# EAGLE library part 690357101472 (library Eagle_BOARD-TO-BOARD_CONNECTORS (rev18b))
WR-MM Male Connector with Polarization,14 Pins=>Code : Con_BTB_MM_Male_THT_690357101472 <http://katalog.we-online.de/media/thumbs2/eican/thb_Con_BTB_MM_Male_THT_69035710xx72_pf2.jpg> Details see: http://katalog.we-online.de/en/em/6903_5710_xx_72 Created 2014-06-04, Karrer Zheng 2014 (C) Würth Elektronik
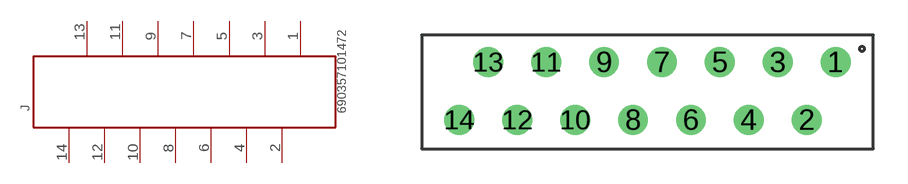
[diagram p309: symbol with the pads of 690357101472; footprint 690357101472]

Designator prefix J

## 690357101472  [690357101472]
1  14  pas
2  13  pas
3  12  pas
4  11  pas
5  10  pas
6  9  pas
7  8  pas
8  7  pas
9  6  pas
10  5  pas
11  4  pas
12  3  pas
13  2  pas
14  1  pas

## Footprint 690357101472 (pad centres in mm)
WR-MM Male Connector with Polarization, 14 Pins
drill 0.8: 1 8.255,1.315; 2 6.985,-1.225; 3 5.715,1.315; 4 4.445,-1.225; 5 3.175,1.315; 6 1.905,-1.225; 7 0.635,1.315; 8 -0.635,-1.225; 9 -1.905,1.315; 10 -3.175,-1.225; 11 -4.445,1.315; 12 -5.715,-1.225; 13 -6.985,1.315; 14 -8.255,-1.225